# EAGLE library part PRTR5V0U4D (library NMX_ControllerSide_v1-3)
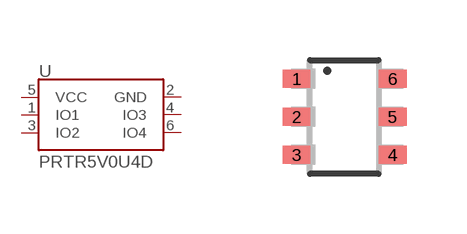
[diagram p4: symbol with the pads of SOT23-6; footprint SOT23-6]

Designator prefix -

## PRTR5V0U4D  [SOT23-6]
1  IO1
2  GND  pwr
3  IO2
4  IO3
5  VCC  pwr
6  IO4

## Footprint SOT23-6 (pad centres in mm)
smd 0.7 x 0.45: 1 -1.2,0.95; 2 -1.2,0; 3 -1.2,-0.95; 4 1.2,-0.95; 5 1.2,0; 6 1.2,0.95